# Altium footprint library Capacitor Non-Polar Disc.PcbLib: 220 footprints (part 12 of 14)
Each footprint in its own frame and in the unit in brackets; x right, y up, seen from the top. Pads: shape width x height; smd on the part's side, far side on the other; paste and mask are expansions set on the pad; w line width, h text height; cw(c..) or ccw(c..) is an arc to the next point about the centre after c.
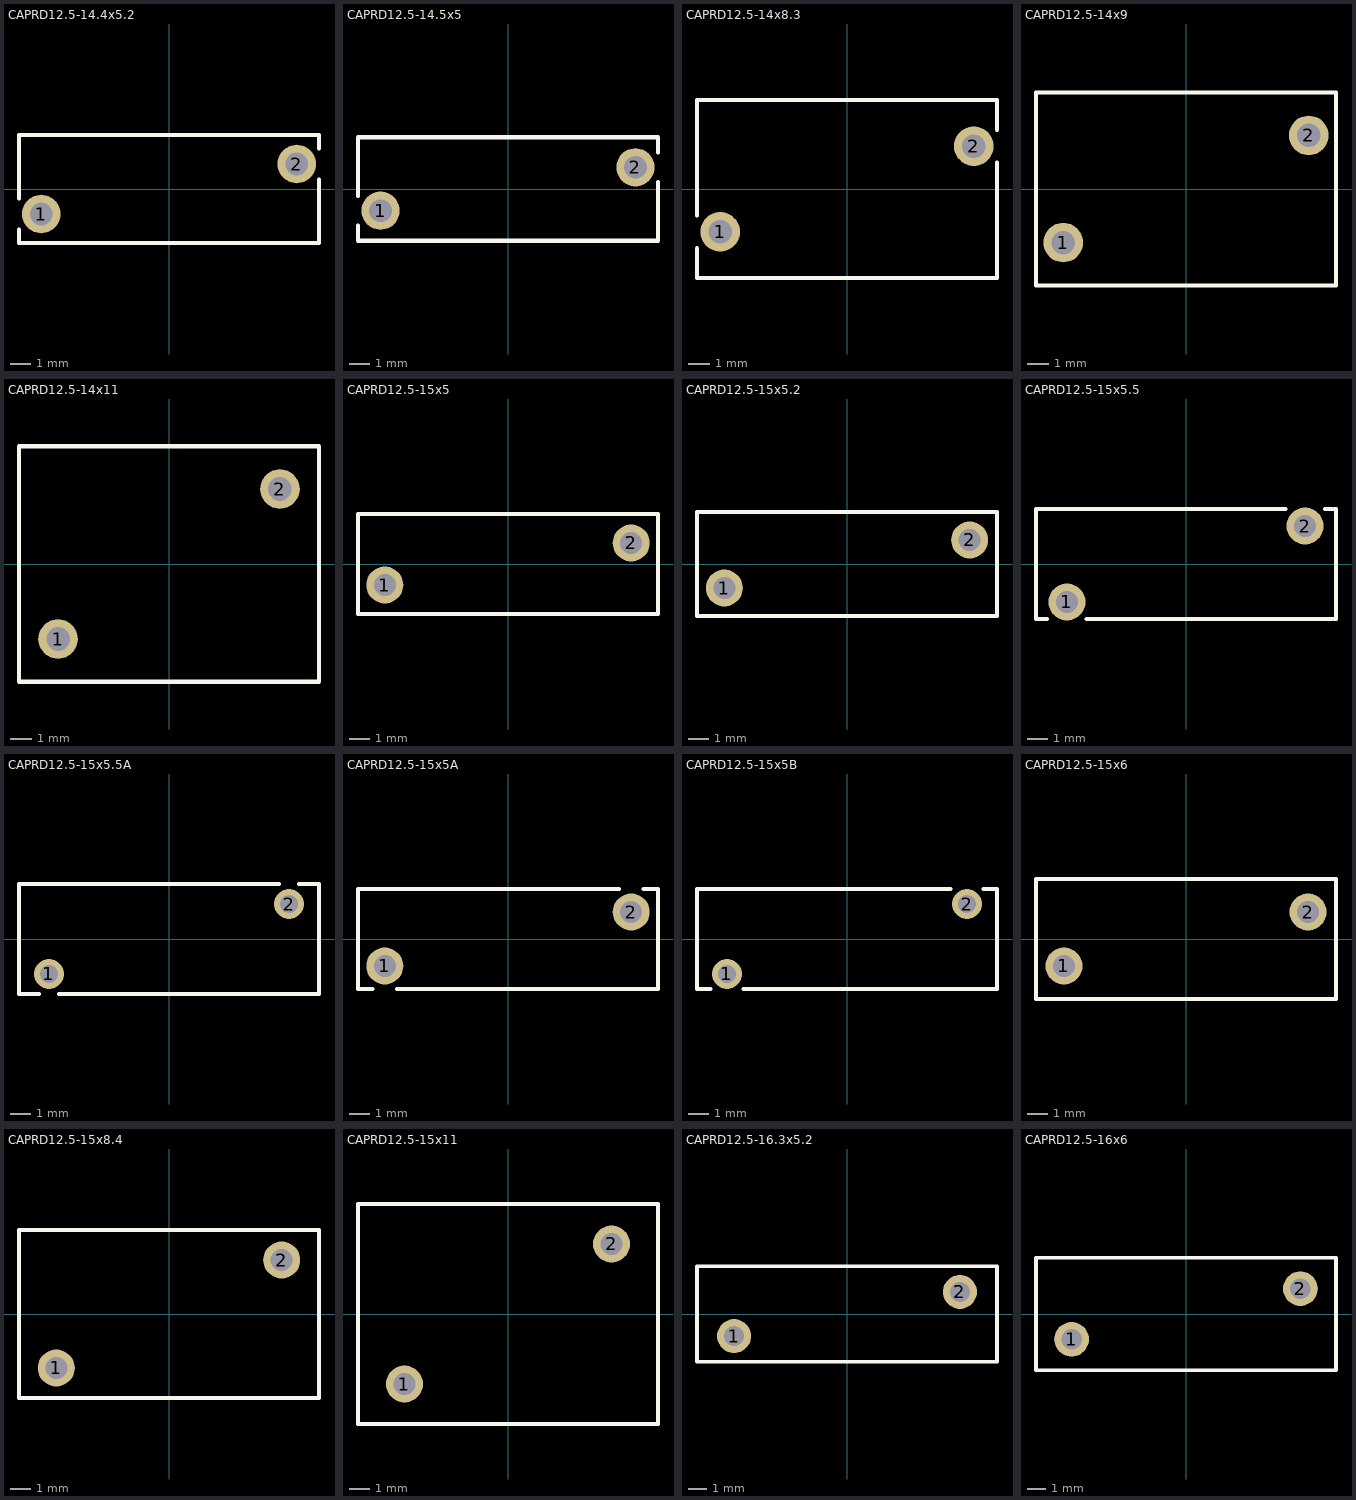
[diagram p11: the footprints below, top view; thin cyan lines are the x and y axes]

## CAPRD12.5-14.4x5.2 [mm] "Capacitor, Ceramic, Thru-Hole, Disc; Body 14.4 x 5.2 mm (LxW max) Pin Spacing 12.5 mm (typ)"
height 17.4
pads (2):
  round 1.85 hole 1.1: 1(-6.134,-1.2) 2(6.134,1.2)
Top Overlay:
  lines w0.2: -7.2,-1.95 -7.2,-2.6 7.2,-2.6 7.2,0.45 ; -7.2,-0.45 -7.2,2.6 7.2,2.6 7.2,1.95

## CAPRD12.5-14.5x5 [mm]
pads (2):
  round 1.85 hole 1.1: 1(-6.161,-1.05) 2(6.161,1.05)
Top Overlay:
  lines w0.2: -7.25,-1.764 -7.25,-2.5 7.25,-2.5 7.25,0.336 ; -7.25,-0.336 -7.25,2.5 7.25,2.5 7.25,1.764

## CAPRD12.5-14x8.3 [mm] "Capacitor, Ceramic, Thru-Hole, Disc; Body 14 x 8.3 mm (LxW max) Pin Spacing 12.5 mm (typ)"
height 17
pads (2):
  round 1.85 hole 1.1: 1(-5.921,-2) 2(5.921,2)
Top Overlay:
  lines w0.2: -7,-2.76 -7,-4.15 7,-4.15 7,1.24 ; -7,-1.24 -7,4.15 7,4.15 7,2.76

## CAPRD12.5-14x9 [mm] "Capacitor, Ceramic, Thru-Hole, Disc; Body 14 x 9 mm (LxW max) Pin Spacing 12.5 mm (typ)"
height 19
pads (2):
  round 1.85 hole 1.1: 1(-5.728,-2.5) 2(5.728,2.5)
Top Overlay:
  lines w0.2: -7,-4.5 7,-4.5 7,4.5 -7,4.5 -7,-4.5

## CAPRD12.5-14x11 [mm] "Capacitor, Ceramic, Thru-Hole, Disc; Body 14 x 11 mm (LxW max) Pin Spacing 12.5 mm (typ)"
height 19
pads (2):
  round 1.85 hole 1.1: 1(-5.178,-3.5) 2(5.178,3.5)
Top Overlay:
  lines w0.2: -7,-5.5 -7,5.5 7,5.5 7,-5.5 -7,-5.5

## CAPRD12.5-15x5 [mm] "Capacitor, Ceramic, Thru-Hole, Disc; Body 15 x 5 mm (LxW max) Pin Spacing 12.5 mm (typ)"
height 18
pads (2):
  round 1.85 hole 1.1: 1(-6.161,-1.05) 2(6.161,1.05)
Top Overlay:
  lines w0.2: -7.5,-2.5 -7.5,2.5 7.5,2.5 7.5,-2.5 -7.5,-2.5

## CAPRD12.5-15x5.2 [mm] "Capacitor, Ceramic, Thru-Hole, Disc; Body 15 x 5.2 mm (LxW max) Pin Spacing 12.5 mm (typ)"
height 18
pads (2):
  round 1.85 hole 1.1: 1(-6.134,-1.2) 2(6.134,1.2)
Top Overlay:
  lines w0.2: -7.5,-2.6 -7.5,2.6 7.5,2.6 7.5,-2.6 -7.5,-2.6

## CAPRD12.5-15x5.5 [mm] "Capacitor, Ceramic, Thru-Hole, Disc; Body 15 x 5.5 mm (LxW max) Pin Spacing 12.5 mm (typ)"
height 18
pads (2):
  round 1.85 hole 1.1: 1(-5.954,-1.9) 2(5.954,1.9)
Top Overlay:
  lines w0.2: -6.941,-2.75 -7.5,-2.75 -7.5,2.75 4.967,2.75 ; -4.967,-2.75 7.5,-2.75 7.5,2.75 6.941,2.75

## CAPRD12.5-15x5.5A [mm] "Capacitor, Ceramic, Thru-Hole, Disc; Body 15 x 5.5 mm (LxW max) Pin Spacing 12.5 mm (typ)"
height 18
pads (2):
  round 1.5 hole 0.9: 1(-6,-1.75) 2(6,1.75)
Top Overlay:
  lines w0.2: -6.5,-2.75 -7.5,-2.75 -7.5,2.75 5.5,2.75 ; -5.5,-2.75 7.5,-2.75 7.5,2.75 6.5,2.75

## CAPRD12.5-15x5A [mm] "Capacitor, Ceramic, Thru-Hole, Disc; Body 15 x 5 mm (LxW max) Pin Spacing 12.5 mm (typ)"
height 18
pads (2):
  round 1.85 hole 1.1: 1(-6.161,-1.35) 2(6.161,1.35)
Top Overlay:
  lines w0.2: -6.77,-2.5 -7.5,-2.5 -7.5,2.5 5.552,2.5 ; -5.552,-2.5 7.5,-2.5 7.5,2.5 6.77,2.5

## CAPRD12.5-15x5B [mm] "Capacitor, Ceramic, Thru-Hole, Disc; Body 15 x 5 mm (LxW max) Pin Spacing 12.5 mm (typ)"
height 18
pads (2):
  round 1.5 hole 0.9: 1(-6,-1.75) 2(6,1.75)
Top Overlay:
  lines w0.2: -6.83,-2.5 -7.5,-2.5 -7.5,2.5 5.17,2.5 ; -5.17,-2.5 7.5,-2.5 7.5,2.5 6.83,2.5

## CAPRD12.5-15x6 [mm] "Capacitor, Ceramic, Thru-Hole, Disc; Body 15 x 6 mm (LxW max) Pin Spacing 12.5 mm (typ)"
height 18
pads (2):
  round 1.85 hole 1.1: 1(-6.102,-1.35) 2(6.102,1.35)
Top Overlay:
  lines w0.2: -7.5,-3 7.5,-3 7.5,3 -7.5,3 -7.5,-3

## CAPRD12.5-15x8.4 [mm] "Capacitor, Ceramic, Thru-Hole, Disc; Body 15 x 8.4 mm (LxW max) Pin Spacing 12.5 mm (typ)"
height 18
pads (2):
  round 1.85 hole 1.1: 1(-5.637,-2.7) 2(5.637,2.7)
Top Overlay:
  lines w0.2: -7.5,-4.2 7.5,-4.2 7.5,4.2 -7.5,4.2 -7.5,-4.2

## CAPRD12.5-15x11 [mm] "Capacitor, Ceramic, Thru-Hole, Disc; Body 15 x 11 mm (LxW max) Pin Spacing 12.5 mm (typ)"
height 20
pads (2):
  round 1.85 hole 1.1: 1(-5.178,-3.5) 2(5.178,3.5)
Top Overlay:
  lines w0.2: -7.5,-5.5 -7.5,5.5 7.5,5.5 7.5,-5.5 -7.5,-5.5

## CAPRD12.5-16.3x5.2 [mm] "Capacitor, Ceramic, Thru-Hole, Disc; Body 16.3 x 5.2 mm (LxW max) Pin Spacing 12.5 mm (typ)"
height 19.3
pads (2):
  round 1.85 hole 1.1: 1(-6.134,-1.2) 2(6.134,1.2)
Top Overlay:
  lines w0.2: -8.15,-2.6 -8.15,2.6 8.15,2.6 8.15,-2.6 -8.15,-2.6

## CAPRD12.5-16x6 [mm] "Capacitor, Ceramic, Thru-Hole, Disc; Body 16 x 6 mm (LxW max) Pin Spacing 12.5 mm (typ)"
height 19
pads (2):
  round 1.85 hole 1.1: 1(-6.102,-1.35) 2(6.102,1.35)
Top Overlay:
  lines w0.2: -8,-3 8,-3 8,3 -8,3 -8,-3